# EAGLE library part N25Q512A13GF840E (library johnmamish-micron)
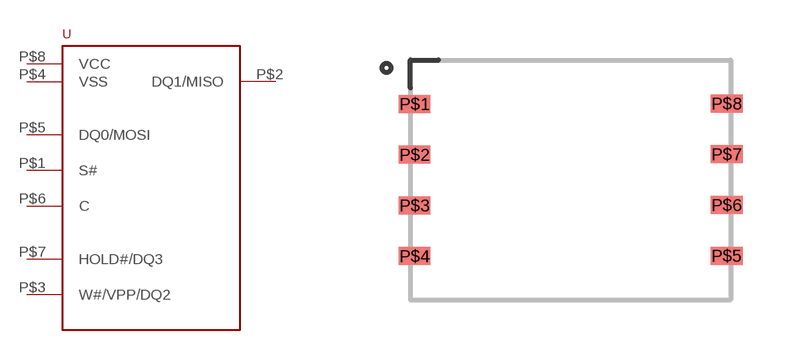
[diagram p0: symbol with the pads of MICRON_8X6_V-PDFN_8; footprint MICRON_8X6_V-PDFN_8]

Designator prefix -

## N25Q512A13GF840E  [MICRON_8X6_V-PDFN_8]
P$1  S#  nc
P$2  DQ1/MISO  nc
P$3  W#/VPP/DQ2  nc
P$4  VSS  nc
P$5  DQ0/MOSI  nc
P$6  C  nc
P$7  HOLD#/DQ3  nc
P$8  VCC  nc

## Footprint MICRON_8X6_V-PDFN_8 (pad centres in mm)
smd 0.8 x 0.45: P$1 0,0; P$2 0,-1.27; P$3 0,-2.54; P$4 0,-3.81; P$5 7.8,-3.8; P$6 7.8,-2.53; P$7 7.8,-1.26; P$8 7.8,0.01